# EAGLE library part IRF7316PBF (library mh_MOSFET)
IRF7316PBF IRF7316PBF - Dual-MOSFET, Zweifach p-Kanal, 4.9 A, -30 V, 58 mohm, -10 V, -1 V The IRF7316PBF is a dual P-channel MOSFET utilizes advanced processing techniques to achieve the lowest possible ON-resistance per silicon area. This benefit combined with the fast switching speed and ruggedized device. The HEXFET Power MOSFET is extremely efficient device for use in a wide variety of applications. The SO-8 has been modified through a customized lead-frame for enhanced thermal characteristics and dual-die capability making it ideal in a variety of power applications. With these improvements, multiple devices can be used in an application with dramatically reduced board space. http://de.farnell.com/infineon/irf7316pbf/mosfet-2fach-pp-logik-so-8/dp/9102221
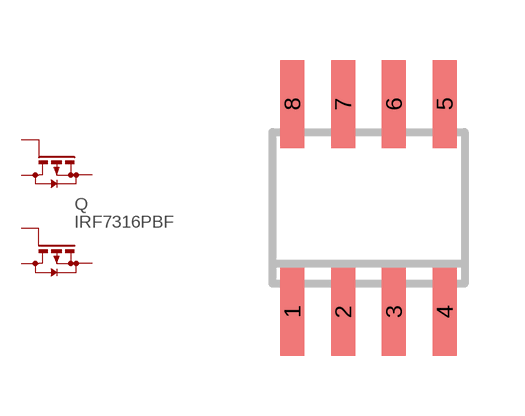
[diagram p0: symbol with the pads of SO8; footprint SO8]

Designator prefix Q

## IRF7316PBF  [SO8]
1  S1  pas
2  G1  pas
3  S2  pas
4  G2  pas
5  D2  pas
6  D2  pas
7  D1  pas
8  D1  pas

## Footprint SO8 (pad centres in mm)
8-Lead Small Outline IC (SO-8) Source: http://www.analog.com/UploadedFiles/Data_Sheets/703465986AD8611_2_0.pdf
smd 0.6 x 2.2: 1 -1.905,-2.6; 2 -0.635,-2.6; 3 0.635,-2.6; 4 1.905,-2.6; 5 1.905,2.6; 6 0.635,2.6; 7 -0.635,2.6; 8 -1.905,2.6